# EAGLE library part MC145026 (library micro-motorola-rp)
ENCODER
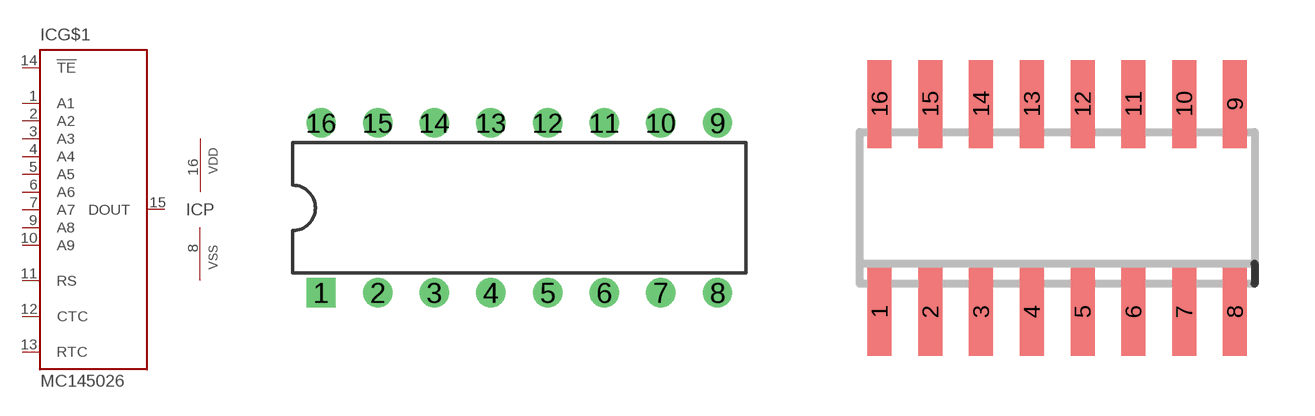
[diagram p50: symbol with the pads of DIL16; footprints DIL16, SO16]

Designator prefix IC; gates G$1=MC145026 P=VSSVDD

## MC145026P (OC_FARNELL: unknown; OC_NEWARK: unknown)  [DIL16]
1  G$1:A1  in
2  G$1:A2  in
3  G$1:A3  in
4  G$1:A4  in
5  G$1:A5  in
6  G$1:A6  in
7  G$1:A7  in
8  P:VSS  pwr
9  G$1:A8  in
10  G$1:A9  in
11  G$1:RS  pas
12  G$1:CTC  pas
13  G$1:RTC  pas
14  G$1:!TE  in
15  G$1:DOUT  in
16  P:VDD  pwr

## MC145026D (OC_FARNELL: unknown; OC_NEWARK: unknown)  [SO16]
Pads as for DIL16

## Footprint DIL16 (pad centres in mm)
Dual In Line Package
drill 0.813 square: 1 -8.89,-3.81
drill 0.813: 2 -6.35,-3.81; 3 -3.81,-3.81; 4 -1.27,-3.81; 5 1.27,-3.81; 6 3.81,-3.81; 7 6.35,-3.81; 8 8.89,-3.81; 9 8.89,3.81; 10 6.35,3.81; 11 3.81,3.81; 12 1.27,3.81; 13 -1.27,3.81; 14 -3.81,3.81; 15 -6.35,3.81; 16 -8.89,3.81

## Footprint SO16 (pad centres in mm)
SMALL OUTLINE INTEGRATED CIRCUIT body 3.9 mm/JEDEC MS-012AC
smd 0.6 x 2.2: 1 -4.445,-2.6; 2 -3.175,-2.6; 3 -1.905,-2.6; 4 -0.635,-2.6; 5 0.635,-2.6; 6 1.905,-2.6; 7 3.175,-2.6; 8 4.445,-2.6; 9 4.445,2.6; 10 3.175,2.6; 11 1.905,2.6; 12 0.635,2.6; 13 -0.635,2.6; 14 -1.905,2.6; 15 -3.175,2.6; 16 -4.445,2.6